# Altium footprint library Potentiometer_THT.PcbLib: 106 footprints (part 2 of 7)
Each footprint in its own frame and in the unit in brackets; x right, y up, seen from the top. Pads: shape width x height; smd on the part's side, far side on the other; paste and mask are expansions set on the pad; w line width, h text height; cw(c..) or ccw(c..) is an arc to the next point about the centre after c.
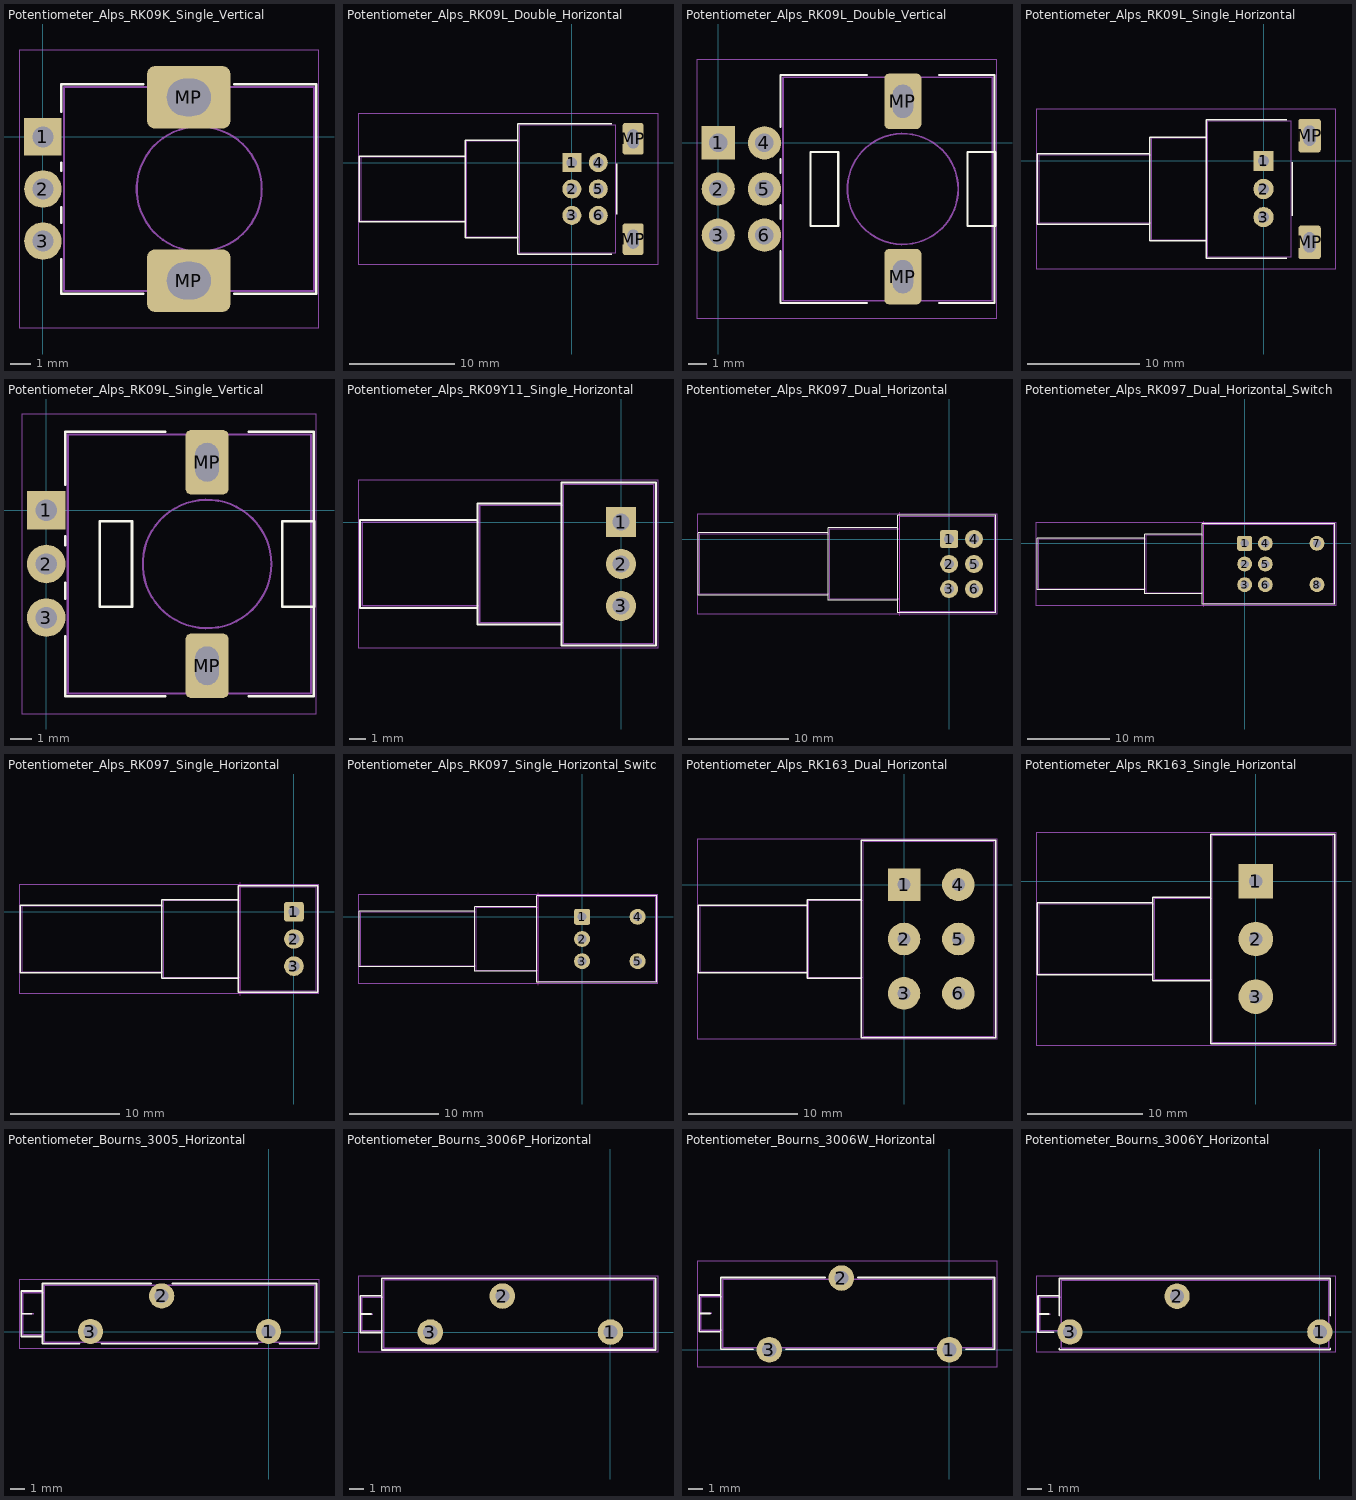
[diagram p1: the footprints below, top view; thin cyan lines are the x and y axes]

## Potentiometer_Alps_RK09K_Single_Vertical [mm]
pads (5):
  rect 1.8x1.8 hole 1: 1(0,0)
  round 1.8 hole 1: 2(0,-2.5) 3(0,-5)
  rrect25% 4x3 hole 1.8 slot 2.1 at 0 deg: MP(7,-6.9) MP(7,1.9)
F.SilkS:
  lines w0.12: 0.88,-5.87 0.88,-7.52 4.817,-7.52 ; 0.88,-4.13 0.88,-3.371 ; 0.88,-1.63 0.88,-1.25 ; 0.88,1.2 0.88,2.521 4.817,2.521 ; 9.184,-7.52 13.12,-7.52 13.12,2.521 9.184,2.521
F.CrtYd:
  lines w0.05: -1.15,-9.15 -1.15,4.15 13.25,4.15 13.25,-9.15 -1.15,-9.15
F.Fab:
  circle w0.1: c7.5,-2.5 r3
  lines w0.1: 1,-7.4 1,2.4 13,2.4 13,-7.4 1,-7.4
  text "'.Designator'" at 2.84,-6.547 h1

## Potentiometer_Alps_RK09L_Double_Horizontal [mm]
pads (8):
  rect 1.8x1.8 hole 1: 1(0,0)
  round 1.8 hole 1: 2(0,-2.5) 3(0,-5) 4(2.5,0) 5(2.5,-2.5) 6(2.5,-5)
  rrect25% 2x3 hole 1.8 slot 1.1 at 0 deg: MP(5.8,-7.25) MP(5.8,2.25)
F.SilkS:
  lines w0.12: -10.12,-5.62 -20.12,-5.62 -20.12,0.62 -10.12,0.62 ; -5.12,-7.12 -10.12,-7.12 -10.12,2.12 -5.12,2.12 ; 3.759,-8.67 -5.12,-8.67 -5.12,3.67 3.759,3.67 ; 4.261,-4.894 4.261,-0.105
F.CrtYd:
  lines w0.05: -20.25,-9.6 -20.25,4.6 8.15,4.6 8.15,-9.6 -20.25,-9.6
F.Fab:
  lines w0.1: -10,-5.5 -20,-5.5 -20,0.5 -10,0.5 ; -5,-7 -10,-7 -10,2 -5,2 ; -5,-8.55 -5,3.55 4.14,3.55 4.14,-8.55 -5,-8.55
  text "'.Designator'" at -4.477,-3.34 h1

## Potentiometer_Alps_RK09L_Double_Vertical [mm]
pads (8):
  rect 1.8x1.8 hole 1: 1(0,0)
  round 1.8 hole 1: 2(0,-2.5) 3(0,-5) 4(2.5,0) 5(2.5,-2.5) 6(2.5,-5)
  rrect25% 2x3 hole 1.8 slot 1.1 at 0 deg: MP(10,-7.25) MP(10,2.25)
F.SilkS:
  lines w0.12: 3.38,-5.87 3.38,-8.67 8.046,-8.67 ; 3.38,-4.13 3.38,-3.371 ; 3.38,-1.63 3.38,-0.871 ; 3.38,0.871 3.38,3.67 8.046,3.67 ; 11.955,-8.67 14.97,-8.67 14.97,3.67 11.955,3.67 ; 5,-4.5 5,-0.5 6.5,-0.5 6.5,-4.5 5,-4.5 ; 13.5,-4.5 13.5,-0.5 15,-0.5 15,-4.5 13.5,-4.5
F.CrtYd:
  lines w0.05: -1.15,-9.5 -1.15,4.5 15.1,4.5 15.1,-9.5 -1.15,-9.5
F.Fab:
  circle w0.1: c10,-2.5 r3
  lines w0.1: 3.5,-8.55 3.5,3.55 14.85,3.55 14.85,-8.55 3.5,-8.55
  text "'.Designator'" at 5.34,-6.547 h1

## Potentiometer_Alps_RK09L_Single_Horizontal [mm]
pads (5):
  rect 1.8x1.8 hole 1: 1(0,0)
  round 1.8 hole 1: 2(0,-2.5) 3(0,-5)
  rrect25% 2x3 hole 1.1 slot 1.8 at 90 deg: MP(4.1,-7.25) MP(4.1,2.25)
F.SilkS:
  lines w0.12: -10.12,-5.62 -20.12,-5.62 -20.12,0.62 -10.12,0.62 ; -5.12,-7.12 -10.12,-7.12 -10.12,2.12 -5.12,2.12 ; 2.059,-8.67 -5.12,-8.67 -5.12,3.67 2.059,3.67 ; 2.571,-4.894 2.571,-0.105
F.CrtYd:
  lines w0.05: -20.25,-9.6 -20.25,4.6 6.45,4.6 6.45,-9.6 -20.25,-9.6
F.Fab:
  lines w0.1: -10,-5.5 -20,-5.5 -20,0.5 -10,0.5 ; -5,-7 -10,-7 -10,2 -5,2 ; -5,-8.55 -5,3.55 2.45,3.55 2.45,-8.55 -5,-8.55
  text "'.Designator'" at -5.322,-3.34 h1

## Potentiometer_Alps_RK09L_Single_Vertical [mm]
pads (5):
  rect 1.8x1.8 hole 1: 1(0,0)
  round 1.8 hole 1: 2(0,-2.5) 3(0,-5)
  rrect25% 2x3 hole 1.8 slot 1.1 at 0 deg: MP(7.5,-7.25) MP(7.5,2.25)
F.SilkS:
  lines w0.12: 0.88,-5.87 0.88,-8.67 5.546,-8.67 ; 0.88,-4.13 0.88,-3.371 ; 0.88,-1.63 0.88,-1.2 ; 0.88,1.2 0.88,3.67 5.546,3.67 ; 9.455,-8.67 12.47,-8.67 12.47,3.67 9.455,3.67 ; 2.5,-4.5 2.5,-0.5 4,-0.5 4,-4.5 2.5,-4.5 ; 11,-4.5 11,-0.5 12.5,-0.5 12.5,-4.5 11,-4.5
F.CrtYd:
  lines w0.05: -1.15,-9.5 -1.15,4.5 12.6,4.5 12.6,-9.5 -1.15,-9.5
F.Fab:
  circle w0.1: c7.5,-2.5 r3
  lines w0.1: 1,-8.55 1,3.55 12.35,3.55 12.35,-8.55 1,-8.55
  text "'.Designator'" at 2.84,-6.547 h1

## Potentiometer_Alps_RK09Y11_Single_Horizontal [mm]
pads (3):
  rect 1.8x1.8 hole 1: 1(0,0)
  round 1.8 hole 1: 2(0,-2.5) 3(0,-5)
F.SilkS:
  lines w0.12: -8.57,-5.12 -15.57,-5.12 -15.57,0.12 -8.57,0.12 ; -3.57,-6.12 -8.57,-6.12 -8.57,1.12 -3.57,1.12 ; -3.57,-7.37 -3.57,2.37 2.071,2.37 2.071,-7.37 -3.57,-7.37
F.CrtYd:
  lines w0.05: -15.7,-7.5 -15.7,2.5 2.2,2.5 2.2,-7.5 -15.7,-7.5
F.Fab:
  lines w0.1: -8.45,-5 -15.45,-5 -15.45,0 -8.45,0 ; -3.45,-6 -8.45,-6 -8.45,1 -3.45,1 ; -3.45,-7.25 -3.45,2.25 1.95,2.25 1.95,-7.25 -3.45,-7.25
  text "'.Designator'" at -4.797,-3.34 h1

## Potentiometer_Alps_RK097_Dual_Horizontal [mm]
pads (6):
  rrect25% 1.8x1.8 hole 1: 1(0,0)
  round 1.8 hole 1: 2(0,-2.5) 3(0,-5) 4(2.5,0) 5(2.5,-2.5) 6(2.5,-5)
F.SilkS:
  lines w0.12: -25.1,0.6 -25.1,-5.62 -12.12,-5.62 ; -25.1,0.62 -12.12,0.62 ; -5.12,-6.12 -12.12,-6.12 -12.12,1.12 -5.12,1.12 ; -5.12,-7.37 -5.12,2.37 4.671,2.37 4.671,-7.37 -5.12,-7.37
Edge.Cuts:
  lines w0.1: -5,-7.7 -5,2.7
F.CrtYd:
  lines w0.05: -25.25,-7.5 -25.25,2.5 4.8,2.5 4.8,-7.5 -25.25,-7.5
F.Fab:
  lines w0.1: -12,-5.5 -25,-5.5 -25,0.5 -12,0.5 ; -5,-6 -12,-6 -12,1 -5,1 ; -5,-7.25 -5,2.25 4.55,2.25 4.55,-7.25 -5,-7.25
  text "'.Designator'" at -4.272,-3.34 h1

## Potentiometer_Alps_RK097_Dual_Horizontal_Switch [mm]
pads (8):
  rrect25% 1.8x1.8 hole 1: 1(0,0)
  round 1.8 hole 1: 2(0,-2.5) 3(0,-5) 4(2.5,0) 5(2.5,-2.5) 6(2.5,-5) 7(8.75,0) 8(8.75,-5)
F.SilkS:
  lines w0.12: -12.12,-5.62 -25.12,-5.62 -25.12,0.62 -12.12,0.62 ; -5.12,-6.12 -12.12,-6.12 -12.12,1.12 -5.12,1.12 ; -5.12,-7.37 -5.12,2.37 10.921,2.37 10.921,-7.37 -5.12,-7.37
Edge.Cuts:
  lines w0.1: -5,-7.7 -5,2.7
F.CrtYd:
  lines w0.05: -25.25,-7.5 -25.25,2.5 11.05,2.5 11.05,-7.5 -25.25,-7.5
F.Fab:
  lines w0.1: -12,-5.5 -25,-5.5 -25,0.5 -12,0.5 ; -5,-6 -12,-6 -12,1 -5,1 ; -5,-7.25 -5,2.25 10.8,2.25 10.8,-7.25 -5,-7.25
  text "'.Designator'" at -4.272,-3.34 h1

## Potentiometer_Alps_RK097_Single_Horizontal [mm]
pads (3):
  rrect25% 1.8x1.8 hole 1: 1(0,0)
  round 1.8 hole 1: 2(0,-2.5) 3(0,-5)
F.SilkS:
  lines w0.12: -12.12,-5.62 -25.12,-5.62 -25.12,0.62 -12.12,0.62 ; -5.12,-6.12 -12.12,-6.12 -12.12,1.12 -5.12,1.12 ; -5.12,-7.37 -5.12,2.37 2.175,2.37 2.175,-7.37 -5.12,-7.37
Edge.Cuts:
  lines w0.1: -5,-7.7 -5,2.7
F.CrtYd:
  lines w0.05: -25.25,-7.5 -25.25,2.5 2.3,2.5 2.3,-7.5 -25.25,-7.5
F.Fab:
  lines w0.1: -12,-5.5 -25,-5.5 -25,0.5 -12,0.5 ; -5,-6 -12,-6 -12,1 -5,1 ; -5,-7.25 -5,2.25 2.05,2.25 2.05,-7.25 -5,-7.25
  text "'.Designator'" at -5.522,-3.34 h1

## Potentiometer_Alps_RK097_Single_Horizontal_Switch [mm]
pads (5):
  rrect25% 1.8x1.8 hole 1: 1(0,0)
  round 1.8 hole 1: 2(0,-2.5) 3(0,-5) 4(6.25,0) 5(6.25,-5)
F.SilkS:
  lines w0.12: -12.12,-5.62 -25.12,-5.62 -25.12,0.62 -12.12,0.62 ; -5.12,-6.12 -12.12,-6.12 -12.12,1.12 -5.12,1.12 ; -5.12,-7.37 -5.12,2.37 8.42,2.37 8.42,-7.37 -5.12,-7.37
Edge.Cuts:
  lines w0.1: -5,-7.7 -5,2.7
F.CrtYd:
  lines w0.05: -25.25,-7.5 -25.25,2.5 8.55,2.5 8.55,-7.5 -25.25,-7.5
F.Fab:
  lines w0.1: -12,-5.5 -25,-5.5 -25,0.5 -12,0.5 ; -5,-6 -12,-6 -12,1 -5,1 ; -5,-7.25 -5,2.25 8.3,2.25 8.3,-7.25 -5,-7.25
  text "'.Designator'" at -5.522,-3.34 h1

## Potentiometer_Alps_RK163_Dual_Horizontal [mm]
pads (6):
  rect 3x3 hole 1.2: 1(0,0)
  round 3 hole 1.2: 2(0,-5) 3(0,-10) 4(5,0) 5(5,-5) 6(5,-10)
F.SilkS:
  lines w0.12: -8.92,-8.12 -18.92,-8.12 -18.92,-1.88 -8.92,-1.88 ; -3.92,-8.62 -8.92,-8.62 -8.92,-1.38 -3.92,-1.38 ; -3.92,-14.07 -3.92,4.07 8.42,4.07 8.42,-14.07 -3.92,-14.07
F.CrtYd:
  lines w0.05: -19.05,-14.2 -19.05,4.2 8.55,4.2 8.55,-14.2 -19.05,-14.2
F.Fab:
  lines w0.1: -8.8,-8 -18.8,-8 -18.8,-2 -8.8,-2 ; -3.8,-8.5 -8.8,-8.5 -8.8,-1.5 -3.8,-1.5 ; -3.8,-13.95 -3.8,3.95 8.3,3.95 8.3,-13.95 -3.8,-13.95
  text "'.Designator'" at -1.797,-5.84 h1

## Potentiometer_Alps_RK163_Single_Horizontal [mm]
pads (3):
  rect 3x3 hole 1.2: 1(0,0)
  round 3 hole 1.2: 2(0,-5) 3(0,-10)
F.SilkS:
  lines w0.12: -8.92,-8.12 -18.92,-8.12 -18.92,-1.88 -8.92,-1.88 ; -3.92,-8.62 -8.92,-8.62 -8.92,-1.38 -3.92,-1.38 ; -3.92,-14.07 -3.92,4.07 6.82,4.07 6.82,-14.07 -3.92,-14.07
F.CrtYd:
  lines w0.05: -19.05,-14.2 -19.05,4.2 6.95,4.2 6.95,-14.2 -19.05,-14.2
F.Fab:
  lines w0.1: -8.8,-8 -18.8,-8 -18.8,-2 -8.8,-2 ; -3.8,-8.5 -8.8,-8.5 -8.8,-1.5 -3.8,-1.5 ; -3.8,-13.95 -3.8,3.95 6.7,3.95 6.7,-13.95 -3.8,-13.95
  text "'.Designator'" at -2.597,-5.84 h1

## Potentiometer_Bourns_3005_Horizontal [mm]
pads (3):
  round 1.8 hole 1: 1(0,0) 2(-7.62,2.54) 3(-12.7,0)
F.SilkS:
  lines w0.12: -17.64,1.27 -16.881,1.27 ; -13.469,-0.88 -16.12,-0.88 -16.12,3.42 -8.389,3.42 ; -11.93,-0.88 -0.769,-0.88 ; -6.85,3.42 3.42,3.42 3.42,-0.88 0.77,-0.88 ; -17.64,-0.35 -16.121,-0.35 -16.121,2.89 -17.64,2.89 -17.64,-0.35
F.CrtYd:
  lines w0.05: -17.8,-1.2 -17.8,3.7 3.6,3.7 3.6,-1.2 -17.8,-1.2
F.Fab:
  lines w0.1: -17.52,1.27 -16.76,1.27 ; -17.52,-0.23 -16,-0.23 -16,2.77 -17.52,2.77 -17.52,-0.23 ; -16,-0.76 -16,3.3 3.3,3.3 3.3,-0.76 -16,-0.76
  text "'.Designator'" at -10.397,0.43 h1

## Potentiometer_Bourns_3006P_Horizontal [mm]
pads (3):
  round 1.8 hole 1: 1(0,0) 2(-7.62,2.54) 3(-12.7,0)
F.SilkS:
  lines w0.12: -17.64,1.27 -16.881,1.27 ; -17.64,-0.03 -16.121,-0.03 -16.121,2.569 -17.64,2.569 -17.64,-0.03 ; -16.12,-1.265 -16.12,3.805 3.17,3.805 3.17,-1.265 -16.12,-1.265
F.CrtYd:
  lines w0.05: -17.8,-1.4 -17.8,3.95 3.35,3.95 3.35,-1.4 -17.8,-1.4
F.Fab:
  lines w0.1: -17.52,1.27 -16.76,1.27 ; -17.52,0.09 -16,0.09 -16,2.45 -17.52,2.45 -17.52,0.09 ; -16,-1.145 3.05,-1.145 3.05,3.685 -16,3.685 -16,-1.145
  text "'.Designator'" at -10.522,0.43 h1

## Potentiometer_Bourns_3006W_Horizontal [mm]
pads (3):
  round 1.8 hole 1: 1(0,0) 2(-7.62,5.06) 3(-12.7,0)
F.SilkS:
  lines w0.12: -17.64,2.565 -16.881,2.565 ; -13.854,0.03 -16.12,0.03 -16.12,5.1 -8.775,5.1 ; -11.544,0.03 -1.155,0.03 ; -6.465,5.1 3.17,5.1 3.17,0.03 1.155,0.03 ; -17.64,1.265 -16.121,1.265 -16.121,3.864 -17.64,3.864 -17.64,1.265
F.CrtYd:
  lines w0.05: -17.8,-1.2 -17.8,6.25 3.35,6.25 3.35,-1.2 -17.8,-1.2
F.Fab:
  lines w0.1: -17.52,2.565 -16.76,2.565 ; -17.52,1.385 -17.52,3.745 -16,3.745 -16,1.385 -17.52,1.385 ; -16,0.15 3.05,0.15 3.05,4.98 -16,4.98 -16,0.15
  text "'.Designator'" at -10.522,1.725 h1

## Potentiometer_Bourns_3006Y_Horizontal [mm]
pads (3):
  round 1.8 hole 1: 1(0,0) 2(-10.16,2.54) 3(-17.78,0)
F.SilkS:
  lines w0.12: -20.06,1.27 -19.301,1.27 ; -18.935,-0.03 -20.06,-0.03 -20.06,2.569 -18.541,2.569 -18.541,1.155 ; -18.54,-1.155 -18.54,-1.265 0.75,-1.265 0.75,-1.155 ; -18.54,1.155 -18.54,3.805 0.75,3.805 0.75,1.155
F.CrtYd:
  lines w0.05: -20.2,-1.4 -20.2,3.95 1.15,3.95 1.15,-1.4 -20.2,-1.4
F.Fab:
  lines w0.1: -19.94,1.27 -19.18,1.27 ; -19.94,0.09 -19.94,2.45 -18.42,2.45 -18.42,0.09 -19.94,0.09 ; -18.42,-1.145 0.63,-1.145 0.63,3.685 -18.42,3.685 -18.42,-1.145
  text "'.Designator'" at -12.942,0.43 h1